# EAGLE library part AP3441 (library Micromouse 2020)
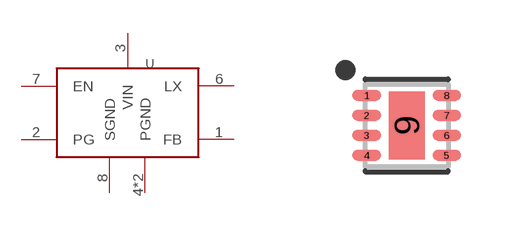
[diagram p2: symbol with the pads of AP3441; footprint AP3441]

Designator prefix U

## AP3441  [AP3441]
1  FB  in
2  PG  out
3  VIN  pwr
4  PGND  pas
6  LX  out
7  EN  in
8  SGND  pas
9  PGND  pas

## Footprint AP3441 (pad centres in mm)
8-SON (DFN), 0.50 mm pitch, 2.01 X 2.01 X 0.60 mm body, 1.70 X 0.90 mm thermal pad 8-pin SON (DFN) package with 0.50 mm pitch with body size 2.01 X 2.01 X 0.60 mm and thermal pad size 1.70 X 0.90 mm
smd 0.715 x 0.27: 1 -1.001,0.75; 2 -1.001,0.25; 3 -1.001,-0.25; 4 -1.001,-0.75; 5 1.001,-0.75; 6 1.001,-0.25; 7 1.001,0.25; 8 1.001,0.75
smd 0.9 x 1.7: 9 0,0